# Altium footprint library con-lsta.PCBLIB: 47 footprints (part 2 of 3)
Each footprint in its own frame and in the unit in brackets; x right, y up, seen from the top. Pads: shape width x height; smd on the part's side, far side on the other; paste and mask are expansions set on the pad; w line width, h text height; cw(c..) or ccw(c..) is an arc to the next point about the centre after c.
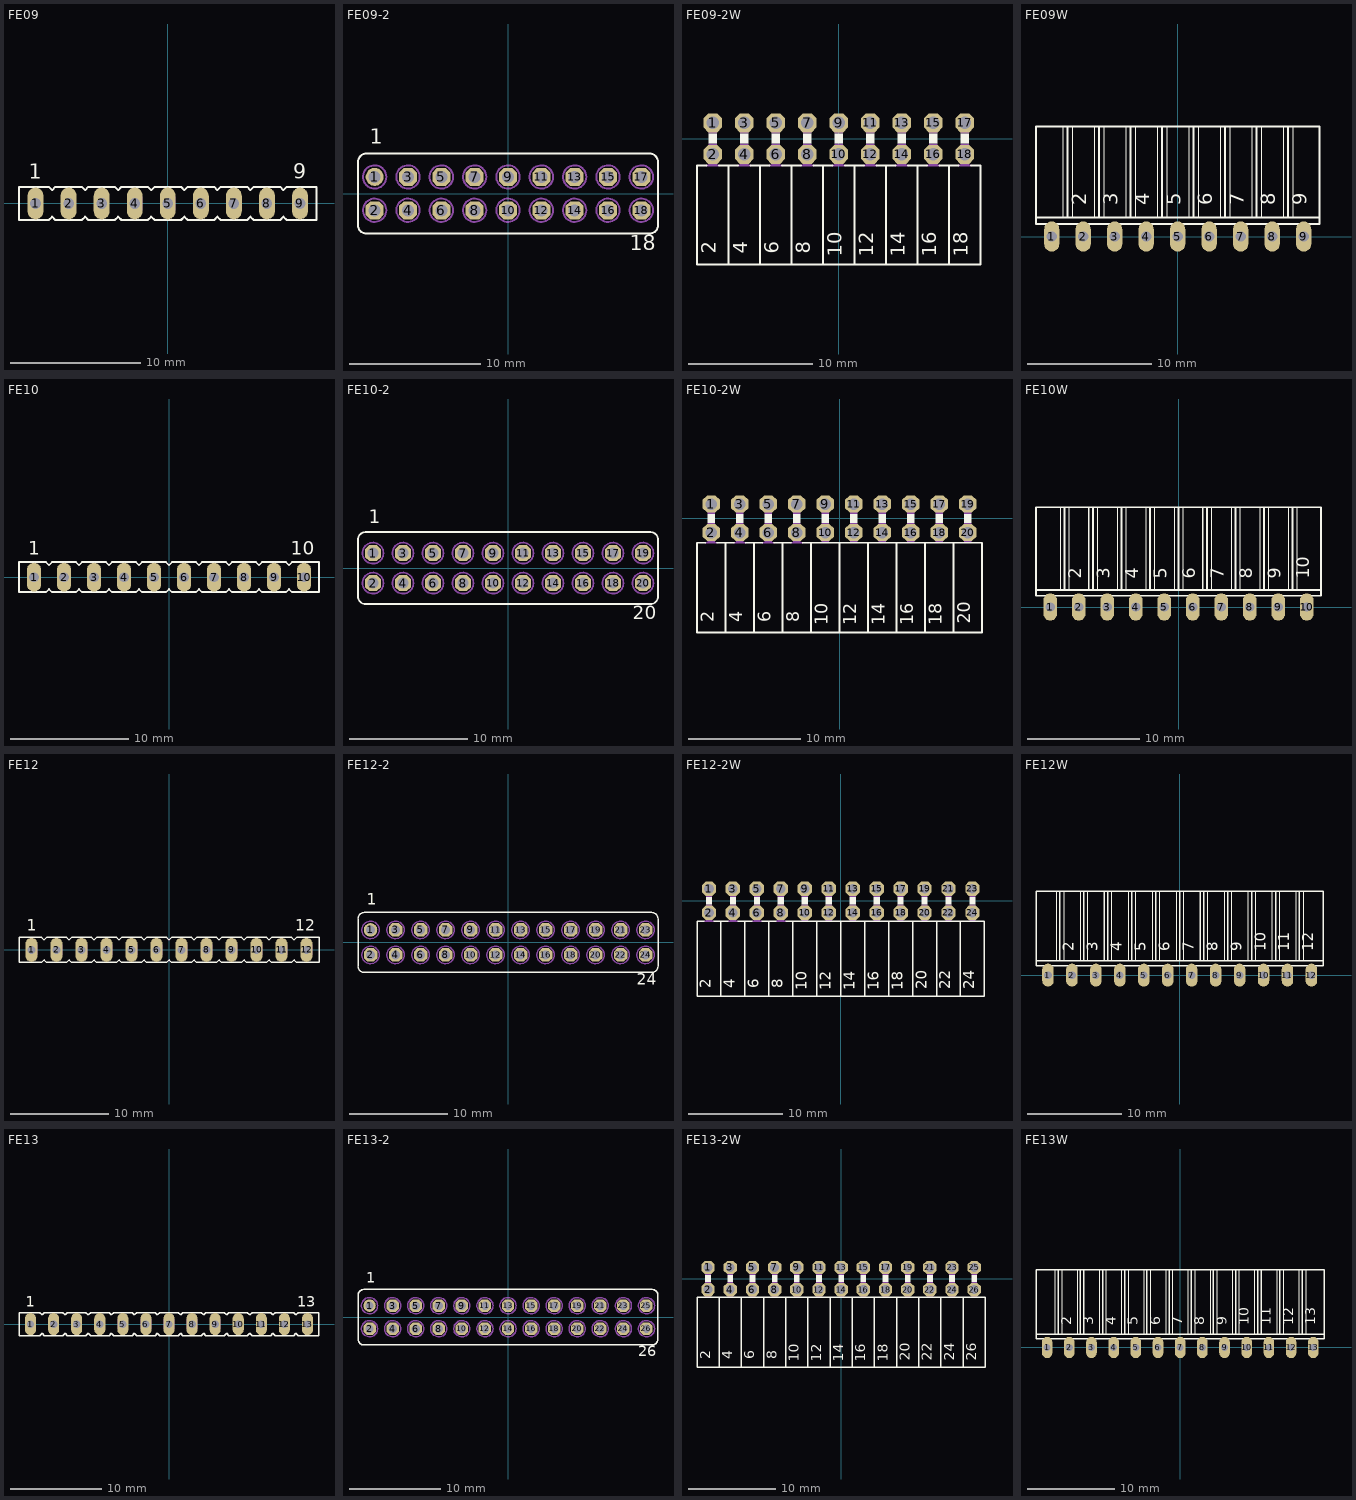
[diagram p1: the footprints below, top view; thin cyan lines are the x and y axes]

## FE09 [mil]
pads (9):
  oval 48x96 hole 32: 1(-400,0) 2(-300,0) 3(-200,0) 4(-100,0) 5(0,0) 6(100,0) 7(200,0) 8(300,0) 9(400,0)
Top Overlay:
  lines w6: -450,-50 -450,50 -360,50 -350,40 -340,50 -260,50 -250,40 -240,50 -160,50 -150,40 -140,50 -60,50 -50,40 -40,50 40,50 50,40 60,50 140,50 150,40 160,50 240,50 250,40 260,50 340,50 350,40 360,50 450,50 450,-50 360,-50 350,-40 340,-50 260,-50 250,-40 240,-50 160,-50 150,-40 140,-50 60,-50 50,-40 40,-50 -40,-50 -50,-40 -60,-50 -140,-50 -150,-40 -160,-50 -240,-50 -250,-40 -260,-50 -340,-50 -350,-40 -360,-50 -450,-50
  text "1" at -420,60 h77.5
  text "9" at 380,60 h77.5
Mechanical 16:
  rectangle: -405,10 -395,30
  rectangle: -405,-30 -395,-10
  rectangle: -305,10 -295,30
  rectangle: -305,-30 -295,-10
  rectangle: -205,10 -195,30
  rectangle: -205,-30 -195,-10
  rectangle: -105,10 -95,30
  rectangle: -105,-30 -95,-10
  rectangle: -5,10 5,30
  rectangle: -5,-30 5,-10
  rectangle: 95,10 105,30
  rectangle: 95,-30 105,-10
  rectangle: 195,10 205,30
  rectangle: 195,-30 205,-10
  rectangle: 295,10 305,30
  rectangle: 295,-30 305,-10
  rectangle: 395,10 405,30
  rectangle: 395,-30 405,-10
  lines w6: -420,-20 -420,20 -410,20 -410,30 -390,30 -390,20 -380,20 -380,-20 -390,-20 -390,-30 -410,-30 -410,-20 -420,-20 ; -320,-20 -320,20 -310,20 -310,30 -290,30 -290,20 -280,20 -280,-20 -290,-20 -290,-30 -310,-30 -310,-20 -320,-20 ; -220,-20 -220,20 -210,20 -210,30 -190,30 -190,20 -180,20 -180,-20 -190,-20 -190,-30 -210,-30 -210,-20 -220,-20 ; -120,-20 -120,20 -110,20 -110,30 -90,30 -90,20 -80,20 -80,-20 -90,-20 -90,-30 -110,-30 -110,-20 -120,-20 ; -20,-20 -20,20 -10,20 -10,30 10,30 10,20 20,20 20,-20 10,-20 10,-30 -10,-30 -10,-20 -20,-20 ; 80,-20 80,20 90,20 90,30 110,30 110,20 120,20 120,-20 110,-20 110,-30 90,-30 90,-20 80,-20 ; 180,-20 180,20 190,20 190,30 210,30 210,20 220,20 220,-20 210,-20 210,-30 190,-30 190,-20 180,-20 ; 280,-20 280,20 290,20 290,30 310,30 310,20 320,20 320,-20 310,-20 310,-30 290,-30 290,-20 280,-20 ; 380,-20 380,20 390,20 390,30 410,30 410,20 420,20 420,-20 410,-20 410,-30 390,-30 390,-20 380,-20

## FE09-2 [mil]
pads (18):
  round 54 hole 36: 1(-400,50)
  oct 54x54 hole 36: 2(-400,-50) 3(-300,50) 4(-300,-50) 5(-200,50) 6(-200,-50) 7(-100,50) 8(-100,-50) 9(0,50) 10(0,-50) 11(100,50) 12(100,-50) 13(200,50) 14(200,-50) 15(300,50) 16(300,-50) 17(400,50) 18(400,-50)
Top Overlay:
  lines w6: -450,-95 -450,95 cw(c-425,95) -425,120 425,120 cw(c425,95) 450,95 450,-95 cw(c425,-95) 425,-120 -425,-120 cw(c-425,-95) -450,-95
  text "1" at -415,135 h77.5
  text "18" at 365,-185 h77.5
Mechanical 16:
  circle w16: c-400,-50 r5
  circle w16: c-400,50 r5
  circle w16: c-300,-50 r5
  circle w16: c-300,50 r5
  circle w16: c-200,-50 r5
  circle w16: c-200,50 r5
  circle w16: c-100,-50 r5
  circle w16: c-100,50 r5
  circle w16: c0,-50 r5
  circle w16: c0,50 r5
  circle w6: c-400,-50 r35
  circle w6: c-400,50 r35
  circle w6: c-300,50 r35
  circle w6: c-200,50 r35
  circle w6: c-100,50 r35
  circle w6: c0,50 r35
  circle w6: c-300,-50 r35
  circle w6: c-200,-50 r35
  circle w6: c-100,-50 r35
  circle w6: c0,-50 r35
  circle w16: c100,-50 r5
  circle w16: c100,50 r5
  circle w16: c200,-50 r5
  circle w16: c200,50 r5
  circle w16: c300,-50 r5
  circle w16: c300,50 r5
  circle w16: c400,-50 r5
  circle w16: c400,50 r5
  circle w6: c100,-50 r35
  circle w6: c100,50 r35
  circle w6: c200,50 r35
  circle w6: c300,50 r35
  circle w6: c400,50 r35
  circle w6: c200,-50 r35
  circle w6: c300,-50 r35
  circle w6: c400,-50 r35

## FE09-2W [mil]
pads (18):
  oct 60x60 hole 40: 1(-400,50) 2(-400,-50) 3(-300,50) 4(-300,-50) 5(-200,50) 6(-200,-50) 7(-100,50) 8(-100,-50) 9(0,50) 10(0,-50) 11(100,50) 12(100,-50) 13(200,50) 14(200,-50) 15(300,50) 16(300,-50) 17(400,50) 18(400,-50)
Top Overlay:
  rectangle: 287,-16 313,16
  rectangle: 187,-16 213,16
  rectangle: 87,-16 113,16
  rectangle: -13,-16 13,16
  rectangle: -113,-16 -87,16
  rectangle: -213,-16 -187,16
  rectangle: -313,-16 -287,16
  rectangle: -413,-16 -387,16
  rectangle: 387,-16 413,16
  lines w6: -420,-85 -450,-85 -450,-400 -350,-400 ; -380,-85 -350,-85 ; -320,-85 -350,-85 ; -280,-85 -250,-85 ; -220,-85 -250,-85 ; -180,-85 -150,-85 ; -120,-85 -150,-85 ; -80,-85 -50,-85 ; -20,-85 -50,-85 ; 20,-85 50,-85 ; 80,-85 50,-85 ; 120,-85 150,-85 ; 180,-85 150,-85 ; 220,-85 250,-85 ; 280,-85 250,-85 ; 320,-85 350,-85 ; 380,-85 350,-85 ; 420,-85 450,-85 450,-400 350,-400 ; -350,-400 -350,-85 ; -350,-400 -250,-400 ; -250,-400 -250,-85 ; -250,-400 -150,-400 ; -150,-400 -150,-85 ; -150,-400 -50,-400 ; -50,-400 -50,-85 ; -50,-400 50,-400 ; 50,-400 50,-85 ; 50,-400 150,-400 ; 150,-400 150,-85 ; 150,-400 250,-400 ; 250,-400 250,-85 ; 250,-400 350,-400 ; 350,-400 350,-85
  text "16" at 325,-375 h77.5
  text "14" at 225,-375 h77.5
  text "12" at 125,-375 h77.5
  text "10" at 25,-375 h77.5
  text "8" at -75,-365 h77.5
  text "6" at -175,-365 h77.5
  text "4" at -275,-365 h77.5
  text "2" at -375,-365 h77.5
  text "18" at 425,-375 h77.5
Mechanical 16:
  rectangle: 287,-84 313,-16
  rectangle: 287,16 313,62
  rectangle: 187,16 213,62
  rectangle: 87,16 113,62
  rectangle: 187,-84 213,-16
  rectangle: 87,-84 113,-16
  rectangle: -13,-84 13,-16
  rectangle: -113,-84 -87,-16
  rectangle: -13,16 13,62
  rectangle: -113,16 -87,62
  rectangle: -213,-84 -187,-16
  rectangle: -313,-84 -287,-16
  rectangle: -413,-84 -387,-16
  rectangle: -213,16 -187,62
  rectangle: -313,16 -287,62
  rectangle: -413,16 -387,62
  rectangle: 387,16 413,62
  rectangle: 387,-84 413,-16
  lines w6: -420,-85 -380,-85 ; -320,-85 -280,-85 ; -220,-85 -180,-85 ; -120,-85 -80,-85 ; -20,-85 20,-85 ; 80,-85 120,-85 ; 180,-85 220,-85 ; 280,-85 320,-85 ; 380,-85 420,-85

## FE09W [mil]
pads (9):
  oval 48x96 hole 32: 1(-400,0) 2(-300,0) 3(-200,0) 4(-100,0) 5(0,0) 6(100,0) 7(200,0) 8(300,0) 9(400,0)
Top Overlay:
  lines w2: -365,60 -365,350 ; -335,60 -335,350 ; -265,60 -265,350 ; -235,60 -235,350 ; -165,60 -165,350 ; -135,60 -135,350 ; -65,60 -65,350 ; -35,60 -35,350 ; 35,60 35,350 ; 65,60 65,350 ; 135,60 135,350 ; 165,60 165,350 ; 235,60 235,350 ; 265,60 265,350 ; 335,60 335,350 ; 365,60 365,350
  lines w6: -450,60 -450,40 450,40 450,60 ; -450,60 -450,350 -365,350 -350,350 ; -450,60 -365,60 -350,60 ; -350,60 -335,60 -265,60 -250,60 ; -350,60 -350,350 ; -350,350 -335,350 -265,350 -250,350 ; -250,60 -235,60 -165,60 -150,60 ; -250,60 -250,350 ; -250,350 -235,350 -165,350 -150,350 ; -150,60 -135,60 -65,60 -50,60 ; -150,60 -150,350 ; -150,350 -135,350 -65,350 -50,350 ; -50,60 -35,60 35,60 50,60 ; -50,60 -50,350 ; -50,350 -35,350 35,350 50,350 ; 50,60 50,350 ; 50,60 65,60 135,60 150,60 ; 50,350 65,350 135,350 150,350 ; 150,60 150,350 ; 150,60 165,60 235,60 250,60 ; 150,350 165,350 235,350 250,350 ; 250,60 250,350 ; 250,60 265,60 350,60 ; 250,350 265,350 335,350 350,350 ; 350,60 350,350 ; 350,60 365,60 450,60 ; 350,350 365,350 450,350 450,60
  text "2" at -275,100 h77.5
  text "9" at 425,100 h77.5
  text "5" at 25,100 h77.5
  text "3" at -175,100 h77.5
  text "4" at -75,100 h77.5
  text "6" at 125,100 h77.5
  text "7" at 225,100 h77.5
  text "8" at 325,100 h77.5
Mechanical 16:
  rectangle: -410,0 -390,40
  rectangle: -310,0 -290,40
  rectangle: -210,0 -190,40
  rectangle: -110,0 -90,40
  rectangle: -10,0 10,40
  rectangle: 90,0 110,40
  rectangle: 190,0 210,40
  rectangle: 290,0 310,40
  rectangle: 390,0 410,40

## FE10 [mil]
pads (10):
  oval 48x96 hole 32: 1(-450,0) 2(-350,0) 3(-250,0) 4(-150,0) 5(-50,0) 6(50,0) 7(150,0) 8(250,0) 9(350,0) 10(450,0)
Top Overlay:
  lines w6: -500,-50 -500,50 -410,50 -400,40 -390,50 -310,50 -300,40 -290,50 -210,50 -200,40 -190,50 -110,50 -100,40 -90,50 -10,50 0,40 10,50 90,50 100,40 110,50 190,50 200,40 210,50 290,50 300,40 310,50 390,50 400,40 410,50 500,50 500,-50 410,-50 400,-40 390,-50 310,-50 300,-40 290,-50 210,-50 200,-40 190,-50 110,-50 100,-40 90,-50 10,-50 0,-40 -10,-50 -90,-50 -100,-40 -110,-50 -190,-50 -200,-40 -210,-50 -290,-50 -300,-40 -310,-50 -390,-50 -400,-40 -410,-50 -500,-50
  text "1" at -470,60 h77.5
  text "10" at 405,60 h77.5
Mechanical 16:
  rectangle: -455,10 -445,30
  rectangle: -455,-30 -445,-10
  rectangle: -355,10 -345,30
  rectangle: -355,-30 -345,-10
  rectangle: -255,10 -245,30
  rectangle: -255,-30 -245,-10
  rectangle: -155,10 -145,30
  rectangle: -155,-30 -145,-10
  rectangle: -55,10 -45,30
  rectangle: -55,-30 -45,-10
  rectangle: 45,10 55,30
  rectangle: 45,-30 55,-10
  rectangle: 145,10 155,30
  rectangle: 145,-30 155,-10
  rectangle: 245,10 255,30
  rectangle: 245,-30 255,-10
  rectangle: 345,10 355,30
  rectangle: 345,-30 355,-10
  rectangle: 445,10 455,30
  rectangle: 445,-30 455,-10
  lines w6: -470,-20 -470,20 -460,20 -460,30 -440,30 -440,20 -430,20 -430,-20 -440,-20 -440,-30 -460,-30 -460,-20 -470,-20 ; -370,-20 -370,20 -360,20 -360,30 -340,30 -340,20 -330,20 -330,-20 -340,-20 -340,-30 -360,-30 -360,-20 -370,-20 ; -270,-20 -270,20 -260,20 -260,30 -240,30 -240,20 -230,20 -230,-20 -240,-20 -240,-30 -260,-30 -260,-20 -270,-20 ; -170,-20 -170,20 -160,20 -160,30 -140,30 -140,20 -130,20 -130,-20 -140,-20 -140,-30 -160,-30 -160,-20 -170,-20 ; -70,-20 -70,20 -60,20 -60,30 -40,30 -40,20 -30,20 -30,-20 -40,-20 -40,-30 -60,-30 -60,-20 -70,-20 ; 30,-20 30,20 40,20 40,30 60,30 60,20 70,20 70,-20 60,-20 60,-30 40,-30 40,-20 30,-20 ; 130,-20 130,20 140,20 140,30 160,30 160,20 170,20 170,-20 160,-20 160,-30 140,-30 140,-20 130,-20 ; 230,-20 230,20 240,20 240,30 260,30 260,20 270,20 270,-20 260,-20 260,-30 240,-30 240,-20 230,-20 ; 330,-20 330,20 340,20 340,30 360,30 360,20 370,20 370,-20 360,-20 360,-30 340,-30 340,-20 330,-20 ; 430,-20 430,20 440,20 440,30 460,30 460,20 470,20 470,-20 460,-20 460,-30 440,-30 440,-20 430,-20

## FE10-2 [mil]
pads (20):
  oct 54x54 hole 36: 1(-450,50) 2(-450,-50) 3(-350,50) 4(-350,-50) 5(-250,50) 6(-250,-50) 7(-150,50) 8(-150,-50) 9(-50,50) 10(-50,-50) 11(50,50) 12(50,-50) 13(150,50) 14(150,-50) 15(250,50) 16(250,-50) 17(350,50) 18(350,-50) 19(450,50) 20(450,-50)
Top Overlay:
  lines w6: -500,-95 -500,95 cw(c-475,95) -475,120 475,120 cw(c475,95) 500,95 500,-95 cw(c475,-95) 475,-120 -475,-120 cw(c-475,-95) -500,-95
  text "1" at -465,135 h77.5
  text "20" at 415,-185 h77.5
Mechanical 16:
  circle w16: c-450,-50 r5
  circle w16: c-450,50 r5
  circle w16: c-350,-50 r5
  circle w16: c-350,50 r5
  circle w16: c-250,-50 r5
  circle w16: c-250,50 r5
  circle w16: c-150,-50 r5
  circle w16: c-150,50 r5
  circle w16: c-50,-50 r5
  circle w16: c-50,50 r5
  circle w6: c-450,-50 r35
  circle w6: c-450,50 r35
  circle w6: c-350,50 r35
  circle w6: c-250,50 r35
  circle w6: c-150,50 r35
  circle w6: c-50,50 r35
  circle w6: c-350,-50 r35
  circle w6: c-250,-50 r35
  circle w6: c-150,-50 r35
  circle w6: c-50,-50 r35
  circle w16: c50,-50 r5
  circle w16: c50,50 r5
  circle w16: c150,-50 r5
  circle w16: c150,50 r5
  circle w16: c250,-50 r5
  circle w16: c250,50 r5
  circle w16: c350,-50 r5
  circle w16: c350,50 r5
  circle w16: c450,-50 r5
  circle w16: c450,50 r5
  circle w6: c50,-50 r35
  circle w6: c50,50 r35
  circle w6: c150,50 r35
  circle w6: c250,50 r35
  circle w6: c350,50 r35
  circle w6: c450,50 r35
  circle w6: c150,-50 r35
  circle w6: c250,-50 r35
  circle w6: c350,-50 r35
  circle w6: c450,-50 r35

## FE10-2W [mil]
pads (20):
  oct 60x60 hole 40: 1(-450,50) 2(-450,-50) 3(-350,50) 4(-350,-50) 5(-250,50) 6(-250,-50) 7(-150,50) 8(-150,-50) 9(-50,50) 10(-50,-50) 11(50,50) 12(50,-50) 13(150,50) 14(150,-50) 15(250,50) 16(250,-50) 17(350,50) 18(350,-50) 19(450,50) 20(450,-50)
Top Overlay:
  rectangle: 437,-16 463,16
  rectangle: 337,-16 363,16
  rectangle: 237,-16 263,16
  rectangle: 137,-16 163,16
  rectangle: 37,-16 63,16
  rectangle: -63,-16 -37,16
  rectangle: -163,-16 -137,16
  rectangle: -263,-16 -237,16
  rectangle: -363,-16 -337,16
  rectangle: -463,-16 -437,16
  lines w6: -470,-85 -500,-85 -500,-400 -400,-400 ; -430,-85 -400,-85 ; -370,-85 -400,-85 ; -330,-85 -300,-85 ; -270,-85 -300,-85 ; -230,-85 -200,-85 ; -170,-85 -200,-85 ; -130,-85 -100,-85 ; -400,-400 -400,-85 ; -400,-400 -300,-400 ; -300,-400 -300,-85 ; -300,-400 -200,-400 ; -200,-400 -200,-85 ; -200,-400 -100,-400 ; -100,-400 -100,-85 ; -100,-400 0,-400 ; -100,-85 0,-85 ; 0,-400 0,-85 ; 0,-400 100,-400 ; 0,-85 100,-85 ; 100,-400 100,-85 ; 100,-400 200,-400 ; 100,-85 200,-85 ; 200,-400 200,-85 ; 200,-400 300,-400 ; 200,-85 300,-85 ; 300,-400 300,-85 ; 300,-400 400,-400 ; 300,-85 400,-85 ; 400,-400 400,-85 ; 400,-400 500,-400 500,-85 400,-85
  text "20" at 475,-370 h77.5
  text "18" at 375,-375 h77.5
  text "16" at 275,-375 h77.5
  text "14" at 175,-375 h77.5
  text "12" at 75,-375 h77.5
  text "10" at -25,-375 h77.5
  text "8" at -125,-365 h77.5
  text "6" at -225,-365 h77.5
  text "4" at -325,-365 h77.5
  text "2" at -425,-365 h77.5
Mechanical 16:
  rectangle: 437,-84 463,-16
  rectangle: 337,-84 363,-16
  rectangle: 237,-84 263,-16
  rectangle: 437,16 463,62
  rectangle: 337,16 363,62
  rectangle: 237,16 263,62
  rectangle: 137,16 163,62
  rectangle: 37,16 63,62
  rectangle: 137,-84 163,-16
  rectangle: 37,-84 63,-16
  rectangle: -63,-84 -37,-16
  rectangle: -163,-84 -137,-16
  rectangle: -63,16 -37,62
  rectangle: -163,16 -137,62
  rectangle: -263,-84 -237,-16
  rectangle: -363,-84 -337,-16
  rectangle: -463,-84 -437,-16
  rectangle: -263,16 -237,62
  rectangle: -363,16 -337,62
  rectangle: -463,16 -437,62
  lines w6: -470,-85 -430,-85 ; -370,-85 -330,-85 ; -270,-85 -230,-85 ; -170,-85 -130,-85

## FE10W [mil]
pads (10):
  oval 48x96 hole 32: 1(-450,0) 2(-350,0) 3(-250,0) 4(-150,0) 5(-50,0) 6(50,0) 7(150,0) 8(250,0) 9(350,0) 10(450,0)
Top Overlay:
  lines w2: -415,60 -415,350 ; -385,60 -385,350 ; -285,60 -285,350 ; -215,60 -215,350 ; -185,60 -185,350 ; -115,60 -115,350 ; -85,60 -85,350 ; -15,60 -15,350 ; 15,60 15,350 ; 115,60 115,350 ; 185,60 185,350 ; 215,60 215,350 ; 285,60 285,350 ; 315,60 315,350 ; 385,60 385,350 ; 415,60 415,350
  lines w6: -500,60 -500,40 500,40 500,60 ; -500,60 -500,350 -415,350 -400,350 ; -500,60 -415,60 -400,60 ; -400,60 -385,60 -315,60 ; -400,60 -400,350 ; -400,350 -385,350 -315,350 ; -315,60 -300,60 ; -315,60 -315,350 ; -315,350 -300,350 ; -300,60 -285,60 -215,60 -200,60 ; -300,60 -300,350 ; -300,350 -285,350 -215,350 -200,350 ; -200,60 -185,60 -115,60 -100,60 ; -200,60 -200,350 ; -200,350 -185,350 -115,350 -100,350 ; -100,60 -85,60 -15,60 0,60 ; -100,60 -100,350 ; -100,350 -85,350 -15,350 0,350 ; 0,60 0,350 ; 0,60 15,60 85,60 ; 0,350 15,350 85,350 ; 85,60 100,60 ; 85,60 85,350 ; 85,350 100,350 ; 100,60 100,350 ; 100,60 115,60 185,60 200,60 ; 100,350 115,350 185,350 200,350 ; 200,60 200,350 ; 200,60 215,60 300,60 ; 200,350 215,350 285,350 300,350 ; 300,60 300,350 ; 300,60 315,60 385,60 400,60 ; 300,350 315,350 385,350 400,350 ; 400,60 400,350 ; 400,60 415,60 500,60 ; 400,350 415,350 500,350 500,60
  text "2" at -325,100 h77.5
  text "5" at -25,100 h77.5
  text "10" at 475,100 h77.5
  text "3" at -225,100 h77.5
  text "4" at -125,100 h77.5
  text "6" at 75,100 h77.5
  text "7" at 175,100 h77.5
  text "8" at 275,100 h77.5
  text "9" at 375,100 h77.5
Mechanical 16:
  rectangle: -460,0 -440,40
  rectangle: -360,0 -340,40
  rectangle: -260,0 -240,40
  rectangle: -160,0 -140,40
  rectangle: -60,0 -40,40
  rectangle: 40,0 60,40
  rectangle: 140,0 160,40
  rectangle: 240,0 260,40
  rectangle: 340,0 360,40
  rectangle: 440,0 460,40

## FE12 [mil]
pads (12):
  oval 48x96 hole 32: 1(-550,0) 2(-450,0) 3(-350,0) 4(-250,0) 5(-150,0) 6(-50,0) 7(50,0) 8(150,0) 9(250,0) 10(350,0) 11(450,0) 12(550,0)
Top Overlay:
  lines w6: -600,-50 -600,50 -510,50 -500,40 -490,50 -410,50 -400,40 -390,50 -310,50 -300,40 -290,50 -210,50 -200,40 -190,50 -110,50 -100,40 -90,50 -10,50 0,40 10,50 90,50 100,40 110,50 190,50 200,40 210,50 290,50 300,40 310,50 390,50 400,40 410,50 490,50 500,40 510,50 600,50 600,-50 510,-50 500,-40 490,-50 410,-50 400,-40 390,-50 310,-50 300,-40 290,-50 210,-50 200,-40 190,-50 110,-50 100,-40 90,-50 10,-50 0,-40 -10,-50 -90,-50 -100,-40 -110,-50 -190,-50 -200,-40 -210,-50 -290,-50 -300,-40 -310,-50 -390,-50 -400,-40 -410,-50 -490,-50 -500,-40 -510,-50 -600,-50
  text "1" at -570,60 h77.5
  text "12" at 505,60 h77.5
Mechanical 16:
  drawing of 168 lines, arcs and shapes, not listed

## FE12-2 [mil]
pads (24):
  round 54 hole 36: 1(-550,50)
  oct 54x54 hole 36: 2(-550,-50) 3(-450,50) 4(-450,-50) 5(-350,50) 6(-350,-50) 7(-250,50) 8(-250,-50) 9(-150,50) 10(-150,-50) 11(-50,50) 12(-50,-50) 13(50,50) 14(50,-50) 15(150,50) 16(150,-50) 17(250,50) 18(250,-50) 19(350,50) 20(350,-50) 21(450,50) 22(450,-50) 23(550,50) 24(550,-50)
Top Overlay:
  lines w6: -600,-95 -600,95 cw(c-575,95) -575,120 575,120 cw(c575,95) 600,95 600,-95 cw(c575,-95) 575,-120 -575,-120 cw(c-575,-95) -600,-95
  text "1" at -565,135 h77.5
  text "24" at 515,-185 h77.5
Mechanical 16:
  circle w16: c-550,-50 r5
  circle w16: c-550,50 r5
  circle w16: c-450,-50 r5
  circle w16: c-450,50 r5
  circle w16: c-350,-50 r5
  circle w16: c-350,50 r5
  circle w16: c-250,-50 r5
  circle w16: c-250,50 r5
  circle w16: c-150,-50 r5
  circle w16: c-150,50 r5
  circle w6: c-550,-50 r35
  circle w6: c-550,50 r35
  circle w6: c-450,50 r35
  circle w6: c-350,50 r35
  circle w6: c-250,50 r35
  circle w6: c-150,50 r35
  circle w6: c-450,-50 r35
  circle w6: c-350,-50 r35
  circle w6: c-250,-50 r35
  circle w6: c-150,-50 r35
  circle w16: c-50,-50 r5
  circle w16: c-50,50 r5
  circle w16: c50,-50 r5
  circle w16: c50,50 r5
  circle w16: c150,-50 r5
  circle w16: c150,50 r5
  circle w16: c250,-50 r5
  circle w16: c250,50 r5
  circle w16: c350,-50 r5
  circle w16: c350,50 r5
  circle w6: c-50,-50 r35
  circle w6: c-50,50 r35
  circle w6: c50,50 r35
  circle w6: c150,50 r35
  circle w6: c250,50 r35
  circle w6: c350,50 r35
  circle w6: c50,-50 r35
  circle w6: c150,-50 r35
  circle w6: c250,-50 r35
  circle w6: c350,-50 r35
  circle w16: c450,-50 r5
  circle w16: c450,50 r5
  circle w16: c550,-50 r5
  circle w16: c550,50 r5
  circle w6: c450,-50 r35
  circle w6: c450,50 r35
  circle w6: c550,50 r35
  circle w6: c550,-50 r35

## FE12-2W [mil]
pads (24):
  oct 60x60 hole 40: 1(-550,50) 2(-550,-50) 3(-450,50) 4(-450,-50) 5(-350,50) 6(-350,-50) 7(-250,50) 8(-250,-50) 9(-150,50) 10(-150,-50) 11(-50,50) 12(-50,-50) 13(50,50) 14(50,-50) 15(150,50) 16(150,-50) 17(250,50) 18(250,-50) 19(350,50) 20(350,-50) 21(450,50) 22(450,-50) 23(550,50) 24(550,-50)
Top Overlay:
  rectangle: 337,-16 363,16
  rectangle: 237,-16 263,16
  rectangle: 137,-16 163,16
  rectangle: 37,-16 63,16
  rectangle: -63,-16 -37,16
  rectangle: -163,-16 -137,16
  rectangle: -263,-16 -237,16
  rectangle: -363,-16 -337,16
  rectangle: -463,-16 -437,16
  rectangle: -563,-16 -537,16
  rectangle: 437,-16 463,16
  rectangle: 537,-16 563,16
  lines w6: -570,-85 -600,-85 -600,-400 -500,-400 ; -530,-85 -500,-85 ; -470,-85 -500,-85 ; -430,-85 -400,-85 ; -370,-85 -400,-85 ; -330,-85 -300,-85 ; -270,-85 -300,-85 ; -230,-85 -200,-85 ; -500,-400 -500,-85 ; -500,-400 -400,-400 ; -400,-400 -400,-85 ; -400,-400 -300,-400 ; -300,-400 -300,-85 ; -300,-400 -200,-400 ; -200,-400 -200,-85 ; -200,-400 -100,-400 ; -200,-85 -100,-85 ; -100,-400 -100,-85 ; -100,-400 0,-400 ; -100,-85 0,-85 ; 0,-400 0,-85 ; 0,-400 100,-400 ; 0,-85 100,-85 ; 100,-400 100,-85 ; 100,-400 200,-400 ; 100,-85 200,-85 ; 200,-400 200,-85 ; 200,-400 300,-400 ; 200,-85 300,-85 ; 300,-400 300,-85 ; 300,-400 400,-400 ; 300,-85 400,-85 ; 400,-400 400,-85 ; 400,-400 500,-400 ; 400,-85 500,-85 ; 500,-400 500,-85 ; 500,-400 600,-400 600,-85 500,-85
  text "20" at 375,-370 h77.5
  text "18" at 275,-375 h77.5
  text "16" at 175,-375 h77.5
  text "14" at 75,-375 h77.5
  text "12" at -25,-375 h77.5
  text "10" at -125,-375 h77.5
  text "8" at -225,-365 h77.5
  text "6" at -325,-365 h77.5
  text "4" at -425,-365 h77.5
  text "2" at -525,-365 h77.5
  text "22" at 475,-370 h77.5
  text "24" at 575,-370 h77.5
Mechanical 16:
  rectangle: 337,-84 363,-16
  rectangle: 237,-84 263,-16
  rectangle: 137,-84 163,-16
  rectangle: 337,16 363,62
  rectangle: 237,16 263,62
  rectangle: 137,16 163,62
  rectangle: 37,16 63,62
  rectangle: -63,16 -37,62
  rectangle: 37,-84 63,-16
  rectangle: -63,-84 -37,-16
  rectangle: -163,-84 -137,-16
  rectangle: -263,-84 -237,-16
  rectangle: -163,16 -137,62
  rectangle: -263,16 -237,62
  rectangle: -363,-84 -337,-16
  rectangle: -463,-84 -437,-16
  rectangle: -563,-84 -537,-16
  rectangle: -363,16 -337,62
  rectangle: -463,16 -437,62
  rectangle: -563,16 -537,62
  rectangle: 437,16 463,62
  rectangle: 437,-84 463,-16
  rectangle: 537,16 563,62
  rectangle: 537,-84 563,-16
  lines w6: -570,-85 -530,-85 ; -470,-85 -430,-85 ; -370,-85 -330,-85 ; -270,-85 -230,-85

## FE12W [mil]
pads (12):
  oval 48x96 hole 32: 1(-550,0) 2(-450,0) 3(-350,0) 4(-250,0) 5(-150,0) 6(-50,0) 7(50,0) 8(150,0) 9(250,0) 10(350,0) 11(450,0) 12(550,0)
Top Overlay:
  lines w2: -515,60 -515,350 ; -485,60 -485,350 ; -415,60 -415,350 ; -385,60 -385,350 ; -285,60 -285,350 ; -215,60 -215,350 ; -185,60 -185,350 ; -115,60 -115,350 ; -85,60 -85,350 ; -15,60 -15,350 ; 15,60 15,350 ; 115,60 115,350 ; 185,60 185,350 ; 215,60 215,350 ; 285,60 285,350 ; 315,60 315,350 ; 385,60 385,350 ; 415,60 415,350 ; 485,60 485,350 ; 515,60 515,350
  lines w6: -600,60 -600,40 600,40 600,60 ; -600,60 -600,350 -515,350 -500,350 ; -600,60 -515,60 -500,60 ; -500,60 -485,60 -415,60 -400,60 ; -500,60 -500,350 ; -500,350 -485,350 -415,350 -400,350 ; -400,60 -385,60 -315,60 ; -400,60 -400,350 ; -400,350 -385,350 -315,350 ; -315,60 -300,60 ; -315,60 -315,350 ; -315,350 -300,350 ; -300,60 -285,60 -215,60 -200,60 ; -300,60 -300,350 ; -300,350 -285,350 -215,350 -200,350 ; -200,60 -185,60 -115,60 -100,60 ; -200,60 -200,350 ; -200,350 -185,350 -115,350 -100,350 ; -100,60 -100,350 ; -100,60 -85,60 -15,60 0,60 ; -100,350 -85,350 -15,350 0,350 ; 0,60 0,350 ; 0,60 15,60 85,60 ; 0,350 15,350 85,350 ; 85,60 100,60 ; 85,60 85,350 ; 85,350 100,350 ; 100,60 100,350 ; 100,60 115,60 200,60 ; 100,350 115,350 185,350 200,350 ; 200,60 200,350 ; 200,60 215,60 285,60 300,60 ; 200,350 215,350 285,350 300,350 ; 300,60 300,350 ; 300,60 315,60 385,60 400,60 ; 300,350 315,350 385,350 400,350 ; 400,60 400,350 ; 400,60 415,60 485,60 500,60 ; 400,350 415,350 485,350 500,350 ; 500,60 500,350 ; 500,60 515,60 600,60 ; 500,350 515,350 600,350 600,60
  text "2" at -425,100 h77.5
  text "5" at -125,100 h77.5
  text "10" at 375,100 h77.5
  text "12" at 575,100 h77.5
  text "3" at -325,100 h77.5
  text "4" at -225,100 h77.5
  text "6" at -25,100 h77.5
  text "7" at 75,100 h77.5
  text "8" at 175,100 h77.5
  text "9" at 275,100 h77.5
  text "11" at 475,100 h77.5
Mechanical 16:
  rectangle: -560,0 -540,40
  rectangle: -460,0 -440,40
  rectangle: -360,0 -340,40
  rectangle: -260,0 -240,40
  rectangle: -160,0 -140,40
  rectangle: -60,0 -40,40
  rectangle: 40,0 60,40
  rectangle: 140,0 160,40
  rectangle: 240,0 260,40
  rectangle: 340,0 360,40
  rectangle: 440,0 460,40
  rectangle: 540,0 560,40

## FE13 [mil]
pads (13):
  oval 48x96 hole 32: 1(-600,0) 2(-500,0) 3(-400,0) 4(-300,0) 5(-200,0) 6(-100,0) 7(0,0) 8(100,0) 9(200,0) 10(300,0) 11(400,0) 12(500,0) 13(600,0)
Top Overlay:
  lines w6: -650,-50 -650,50 -560,50 -550,40 -540,50 -460,50 -450,40 -440,50 -360,50 -350,40 -340,50 -260,50 -250,40 -240,50 -160,50 -150,40 -140,50 -60,50 -50,40 -40,50 40,50 50,40 60,50 140,50 150,40 160,50 240,50 250,40 260,50 340,50 350,40 360,50 440,50 450,40 460,50 540,50 550,40 560,50 650,50 650,-50 560,-50 550,-40 540,-50 460,-50 450,-40 440,-50 360,-50 350,-40 340,-50 260,-50 250,-40 240,-50 160,-50 150,-40 140,-50 60,-50 50,-40 40,-50 -40,-50 -50,-40 -60,-50 -140,-50 -150,-40 -160,-50 -240,-50 -250,-40 -260,-50 -340,-50 -350,-40 -360,-50 -440,-50 -450,-40 -460,-50 -540,-50 -550,-40 -560,-50 -650,-50
  text "1" at -620,60 h77.5
  text "13" at 555,60 h77.5
Mechanical 16:
  drawing of 182 lines, arcs and shapes, not listed

## FE13-2 [mil]
pads (26):
  round 54 hole 36: 1(-600,50)
  oct 54x54 hole 36: 2(-600,-50) 3(-500,50) 4(-500,-50) 5(-400,50) 6(-400,-50) 7(-300,50) 8(-300,-50) 9(-200,50) 10(-200,-50) 11(-100,50) 12(-100,-50) 13(0,50) 14(0,-50) 15(100,50) 16(100,-50) 17(200,50) 18(200,-50) 19(300,50) 20(300,-50) 21(400,50) 22(400,-50) 23(500,50) 24(500,-50) 25(600,50) 26(600,-50)
Top Overlay:
  lines w6: -650,-95 -650,95 cw(c-625,95) -625,120 625,120 cw(c625,95) 650,95 650,-95 cw(c625,-95) 625,-120 -625,-120 cw(c-625,-95) -650,-95
  text "1" at -615,135 h77.5
  text "26" at 565,-185 h77.5
Mechanical 16:
  circle w16: c-600,-50 r5
  circle w16: c-600,50 r5
  circle w16: c-500,-50 r5
  circle w16: c-500,50 r5
  circle w16: c-400,-50 r5
  circle w16: c-400,50 r5
  circle w16: c-300,-50 r5
  circle w16: c-300,50 r5
  circle w16: c-200,-50 r5
  circle w16: c-200,50 r5
  circle w6: c-600,-50 r35
  circle w6: c-600,50 r35
  circle w6: c-500,50 r35
  circle w6: c-400,50 r35
  circle w6: c-300,50 r35
  circle w6: c-200,50 r35
  circle w6: c-500,-50 r35
  circle w6: c-400,-50 r35
  circle w6: c-300,-50 r35
  circle w6: c-200,-50 r35
  circle w16: c-100,-50 r5
  circle w16: c-100,50 r5
  circle w16: c0,-50 r5
  circle w16: c0,50 r5
  circle w16: c100,-50 r5
  circle w16: c100,50 r5
  circle w16: c200,-50 r5
  circle w16: c200,50 r5
  circle w16: c300,-50 r5
  circle w16: c300,50 r5
  circle w6: c-100,-50 r35
  circle w6: c-100,50 r35
  circle w6: c0,50 r35
  circle w6: c100,50 r35
  circle w6: c200,50 r35
  circle w6: c300,50 r35
  circle w6: c0,-50 r35
  circle w6: c100,-50 r35
  circle w6: c200,-50 r35
  circle w6: c300,-50 r35
  circle w16: c400,-50 r5
  circle w16: c400,50 r5
  circle w16: c500,-50 r5
  circle w16: c500,50 r5
  circle w16: c600,-50 r5
  circle w16: c600,50 r5
  circle w6: c400,-50 r35
  circle w6: c400,50 r35
  circle w6: c500,50 r35
  circle w6: c600,50 r35
  circle w6: c500,-50 r35
  circle w6: c600,-50 r35

## FE13-2W [mil]
pads (26):
  oct 60x60 hole 40: 1(-600,50) 2(-600,-50) 3(-500,50) 4(-500,-50) 5(-400,50) 6(-400,-50) 7(-300,50) 8(-300,-50) 9(-200,50) 10(-200,-50) 11(-100,50) 12(-100,-50) 13(0,50) 14(0,-50) 15(100,50) 16(100,-50) 17(200,50) 18(200,-50) 19(300,50) 20(300,-50) 21(400,50) 22(400,-50) 23(500,50) 24(500,-50) 25(600,50) 26(600,-50)
Top Overlay:
  rectangle: 587,-16 613,16
  rectangle: 487,-16 513,16
  rectangle: 387,-16 413,16
  rectangle: 287,-16 313,16
  rectangle: 187,-16 213,16
  rectangle: 87,-16 113,16
  rectangle: -13,-16 13,16
  rectangle: -113,-16 -87,16
  rectangle: -213,-16 -187,16
  rectangle: -313,-16 -287,16
  rectangle: -413,-16 -387,16
  rectangle: -513,-16 -487,16
  rectangle: -613,-16 -587,16
  lines w6: -550,-400 -550,-85 ; -550,-400 -450,-400 ; -550,-400 -650,-400 -650,-85 -550,-85 ; -550,-85 -450,-85 ; -450,-400 -450,-85 ; -450,-400 -350,-400 ; -450,-85 -350,-85 ; -350,-400 -350,-85 ; -350,-400 -250,-400 ; -350,-85 -250,-85 ; -250,-400 -250,-85 ; -250,-400 -150,-400 ; -250,-85 -150,-85 ; -150,-400 -150,-85 ; -150,-400 -50,-400 ; -150,-85 -50,-85 ; -50,-400 -50,-85 ; -50,-400 50,-400 ; -50,-85 50,-85 ; 50,-400 50,-85 ; 50,-400 150,-400 ; 50,-85 150,-85 ; 150,-400 150,-85 ; 150,-400 250,-400 ; 150,-85 250,-85 ; 250,-400 250,-85 ; 250,-400 350,-400 ; 250,-85 350,-85 ; 350,-400 350,-85 ; 350,-400 450,-400 ; 350,-85 450,-85 ; 450,-400 450,-85 ; 450,-400 550,-400 ; 450,-85 550,-85 ; 550,-400 550,-85 ; 550,-400 650,-400 650,-85 550,-85
  text "26" at 625,-370 h77.5
  text "24" at 525,-370 h77.5
  text "22" at 425,-370 h77.5
  text "20" at 325,-370 h77.5
  text "18" at 225,-375 h77.5
  text "16" at 125,-375 h77.5
  text "14" at 25,-375 h77.5
  text "12" at -75,-375 h77.5
  text "10" at -175,-375 h77.5
  text "8" at -275,-365 h77.5
  text "6" at -375,-365 h77.5
  text "4" at -475,-365 h77.5
  text "2" at -575,-365 h77.5
Mechanical 16:
  rectangle: 587,-84 613,-16
  rectangle: 587,16 613,62
  rectangle: 487,-84 513,-16
  rectangle: 387,-84 413,-16
  rectangle: 487,16 513,62
  rectangle: 387,16 413,62
  rectangle: 287,-84 313,-16
  rectangle: 187,-84 213,-16
  rectangle: 87,-84 113,-16
  rectangle: 287,16 313,62
  rectangle: 187,16 213,62
  rectangle: 87,16 113,62
  rectangle: -13,16 13,62
  rectangle: -113,16 -87,62
  rectangle: -13,-84 13,-16
  rectangle: -113,-84 -87,-16
  rectangle: -213,-84 -187,-16
  rectangle: -313,-84 -287,-16
  rectangle: -213,16 -187,62
  rectangle: -313,16 -287,62
  rectangle: -413,-84 -387,-16
  rectangle: -513,-84 -487,-16
  rectangle: -613,-84 -587,-16
  rectangle: -413,16 -387,62
  rectangle: -513,16 -487,62
  rectangle: -613,16 -587,62

## FE13W [mil]
pads (13):
  oval 48x96 hole 32: 1(-600,0) 2(-500,0) 3(-400,0) 4(-300,0) 5(-200,0) 6(-100,0) 7(0,0) 8(100,0) 9(200,0) 10(300,0) 11(400,0) 12(500,0) 13(600,0)
Top Overlay:
  lines w2: -565,60 -565,350 ; -535,60 -535,350 ; -465,60 -465,350 ; -365,60 -365,350 ; -335,60 -335,350 ; -265,60 -265,350 ; -235,60 -235,350 ; -165,60 -165,350 ; -135,60 -135,350 ; -65,60 -65,350 ; -35,60 -35,350 ; 35,60 35,350 ; 65,60 65,350 ; 135,60 135,350 ; 165,60 165,350 ; 235,60 235,350 ; 265,60 265,350 ; 335,60 335,350 ; 435,60 435,350 ; 465,60 465,350 ; 535,60 535,350 ; 565,60 565,350
  lines w6: -650,60 -650,40 650,40 650,60 ; -650,60 -650,350 -565,350 -550,350 ; -650,60 -565,60 -550,60 ; -550,60 -535,60 -465,60 -450,60 ; -550,60 -550,350 ; -550,350 -535,350 -465,350 -450,350 ; -450,60 -435,60 ; -450,60 -450,350 ; -450,350 -435,350 ; -435,60 -365,60 -350,60 ; -435,60 -435,350 ; -435,350 -365,350 -350,350 ; -350,60 -335,60 -265,60 -250,60 ; -350,60 -350,350 ; -350,350 -335,350 -265,350 -250,350 ; -250,60 -235,60 -165,60 -150,60 ; -250,60 -250,350 ; -250,350 -235,350 -165,350 -150,350 ; -150,60 -150,350 ; -150,60 -135,60 -65,60 -50,60 ; -150,350 -135,350 -65,350 -50,350 ; -50,60 -50,350 ; -50,60 -35,60 35,60 50,60 ; -50,350 -35,350 35,350 50,350 ; 50,60 50,350 ; 50,60 65,60 150,60 ; 50,350 65,350 135,350 150,350 ; 150,60 150,350 ; 150,60 165,60 235,60 250,60 ; 150,350 165,350 235,350 250,350 ; 250,60 250,350 ; 250,60 265,60 335,60 350,60 ; 250,350 265,350 335,350 350,350 ; 350,60 350,350 ; 350,60 365,60 ; 350,350 365,350 ; 365,60 435,60 450,60 ; 365,60 365,350 ; 365,350 435,350 450,350 ; 450,60 450,350 ; 450,60 465,60 535,60 550,60 ; 450,350 465,350 535,350 550,350 ; 550,60 565,60 650,60 ; 550,60 550,350 ; 550,350 565,350 650,350 650,60
  text "2" at -475,100 h77.5
  text "5" at -175,100 h77.5
  text "10" at 325,100 h77.5
  text "12" at 525,100 h77.5
  text "3" at -375,100 h77.5
  text "4" at -275,100 h77.5
  text "6" at -75,100 h77.5
  text "7" at 25,100 h77.5
  text "8" at 125,100 h77.5
  text "9" at 225,100 h77.5
  text "11" at 425,100 h77.5
  text "13" at 625,100 h77.5
Mechanical 16:
  rectangle: -610,0 -590,40
  rectangle: -510,0 -490,40
  rectangle: -410,0 -390,40
  rectangle: -310,0 -290,40
  rectangle: -210,0 -190,40
  rectangle: -110,0 -90,40
  rectangle: -10,0 10,40
  rectangle: 90,0 110,40
  rectangle: 190,0 210,40
  rectangle: 290,0 310,40
  rectangle: 390,0 410,40
  rectangle: 490,0 510,40
  rectangle: 590,0 610,40